# Altium schematic symbol library MOSFET.SchLib: 5 symbols
Pins are listed as number, name and electrical type; pins without a type are passive.

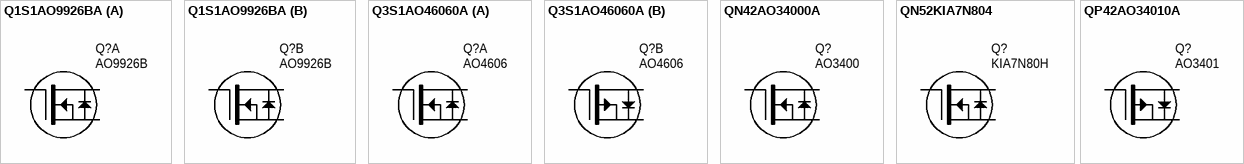
[diagram p0: symbols Q1S1AO9926BA to QP42AO34010A]

## Q1S1AO9926BA
designator Q?, comment AO9926B
Dual N-Channel Enhancement MOSFET AO9926B 20V 5A; Manufacturer: ALPHA&OMEGA; TemperatureRange: -55 to 150°C; MountType: SMT; PackageReference: SO-8; Published: 1-Jun-2017; Publisher: GreenBox; VenderID: AO9926B
footprint SO-8_N (8-Pin Small Outline Integrated Circuit 1.27 mm Pitch, IPC Medium Density)
footprint SO-8_L (8-Pin Small Outline Integrated Circuit 1.27 mm Pitch, IPC High Density)
footprint SO-8_M (8-Pin Small Outline Integrated Circuit 1.27 mm Pitch, IPC Low Density)
part A pins: 1 S, 2 G, 7 D, 8 D
part B pins: 3 S, 4 G, 5 D, 6 D
2 alternate drawings of the same symbol

## Q3S1AO46060A
designator Q?, comment AO4606
Complementary MOSFET AO4606 30V 6.9A -30V -6A; Manufacturer: ALPHA&OMEGA; TemperatureRange: -55 to 150°C; MountType: SMT; PackageReference: SO-8; Published: 1-Jun-2017; Publisher: GreenBox; VenderID: AO4606
footprint SO-8_N (8-Pin Small Outline Integrated Circuit 1.27 mm Pitch, IPC Medium Density)
footprint SO-8_L (8-Pin Small Outline Integrated Circuit 1.27 mm Pitch, IPC High Density)
footprint SO-8_M (8-Pin Small Outline Integrated Circuit 1.27 mm Pitch, IPC Low Density)
part A pins: 1 S, 2 G, 7 D, 8 D
part B pins: 3 S, 4 G, 5 D, 6 D
2 alternate drawings of the same symbol

## QN42AO34000A
designator Q?, comment AO3400
N-Channel MOSFET AO3400 30V 5.8A; Manufacturer: ALPHA&OMEGA; TemperatureRange: -55 to 150°C; MountType: SMT; PackageReference: SOT-23; Published: 1-Jun-2017; Publisher: GreenBox; VenderID: AO3400
footprint SOT-23_N (SOT23, 3-Leads, Body 2.9x1.3mm, Pitch 0.95mm, Lead Span 2.5mm, IPC Medium Density)
footprint SOT-23_L (SOT23, 3-Leads, Body 2.9x1.3mm, Pitch 0.95mm, Lead Span 2.5mm, IPC High Density)
footprint SOT-23_M (SOT23, 3-Leads, Body 2.9x1.3mm, Pitch 0.95mm, Lead Span 2.5mm, IPC Low Density)
pins: 1 G, 2 S, 3 D
2 alternate drawings of the same symbol

## QN52KIA7N804
designator Q?, comment KIA7N80H
N-Channel MOSFET KIA7N80H 800V 7A 1.9ohm; Manufacturer: KIA; TemperatureRange: -55 to 150°C; MountType: DIP; PackageReference: TO-220; Published: 1-Jun-2017; Publisher: GreenBox; VenderID: KIA7N80H
footprint TO-220HS (TO, Thru-Hole, Vertical, Heatsink Mounted; 3 In-Line Leads; Pitch 2.54 mm)
footprint SOT-23_L (SOT23, 3-Leads, Body 2.9x1.3mm, Pitch 0.95mm, Lead Span 2.5mm, IPC High Density)
footprint SOT-23_M (SOT23, 3-Leads, Body 2.9x1.3mm, Pitch 0.95mm, Lead Span 2.5mm, IPC Low Density)
pins: 1 G, 2 D, 3 S
2 alternate drawings of the same symbol

## QP42AO34010A
designator Q?, comment AO3401
P-Channel MOSFET AO3401 -30V -4.2A; Manufacturer: ALPHA&OMEGA; TemperatureRange: -55 to 150°C; MountType: SMT; PackageReference: SOT-23; Published: 1-Jun-2017; Publisher: GreenBox; VenderID: AO3401
footprint SOT-23_N (SOT23, 3-Leads, Body 2.9x1.3mm, Pitch 0.95mm, Lead Span 2.5mm, IPC Medium Density)
footprint SOT-23_L (SOT23, 3-Leads, Body 2.9x1.3mm, Pitch 0.95mm, Lead Span 2.5mm, IPC High Density)
footprint SOT-23_M (SOT23, 3-Leads, Body 2.9x1.3mm, Pitch 0.95mm, Lead Span 2.5mm, IPC Low Density)
pins: 1 G, 2 S, 3 D
2 alternate drawings of the same symbol